# Altium footprint library boost_new.PcbLib: 17 footprints (part 2 of 2)
Each footprint in its own frame and in the unit in brackets; x right, y up, seen from the top. Pads: shape width x height; smd on the part's side, far side on the other; paste and mask are expansions set on the pad; w line width, h text height; cw(c..) or ccw(c..) is an arc to the next point about the centre after c.
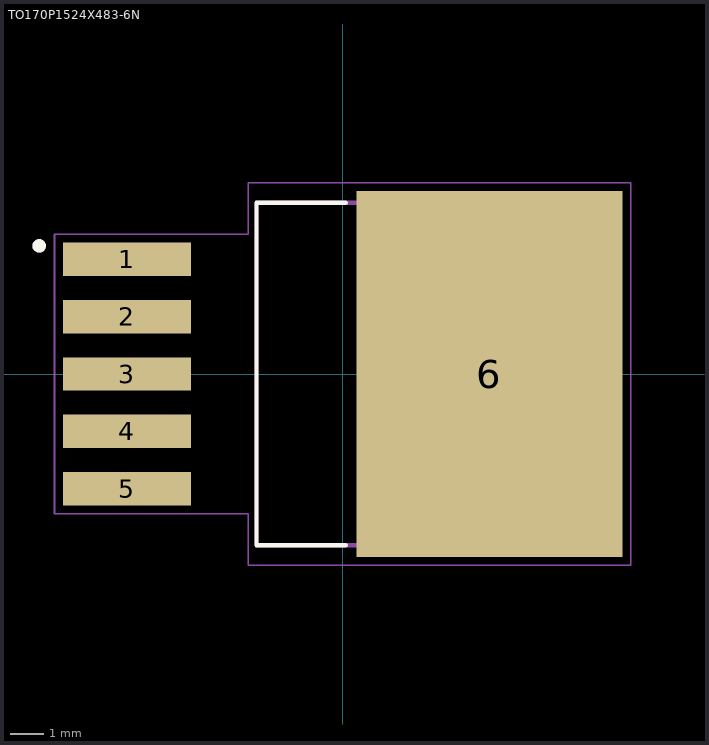
[diagram p1: the footprint, top view; thin cyan lines are the x and y axes]

## TO170P1524X483-6N [mm]
pads (6):
  rect 3.79x0.99 smd: 1(-6.4,3.4) 2(-6.4,1.7) 3(-6.4,0) 4(-6.4,-1.7) 5(-6.4,-3.4)
  rect 7.88x10.84 smd paste-6: 6(4.35,0)
Top Overlay:
  circle w0.2: c-9,3.8 r0.1
  lines w0.127: 0.09,-5.08 -2.553,-5.08 -2.553,5.08 0.09,5.08
Mechanical 13:
  circle w0.2: c-9,3.8 r0.1
  lines w0.127: -2.553,-5.08 6.368,-5.08 6.368,5.08 -2.553,5.08 -2.553,-5.08
Mechanical 15:
  lines w0.05: -8.545,-4.145 -8.545,4.145 -2.803,4.145 -2.803,5.67 8.54,5.67 8.54,-5.67 -2.803,-5.67 -2.803,-4.145 -8.545,-4.145
3D body "step_temp.STEP": height 4.65, standoff -0.15, extent -7.175,-5.08 7.175,5.08